# Altium footprint library WA3-220S05A3.PcbLib: 1 footprints
Each footprint in its own frame and in the unit in brackets; x right, y up, seen from the top. Pads: shape width x height; smd on the part's side, far side on the other; paste and mask are expansions set on the pad; w line width, h text height; cw(c..) or ccw(c..) is an arc to the next point about the centre after c.
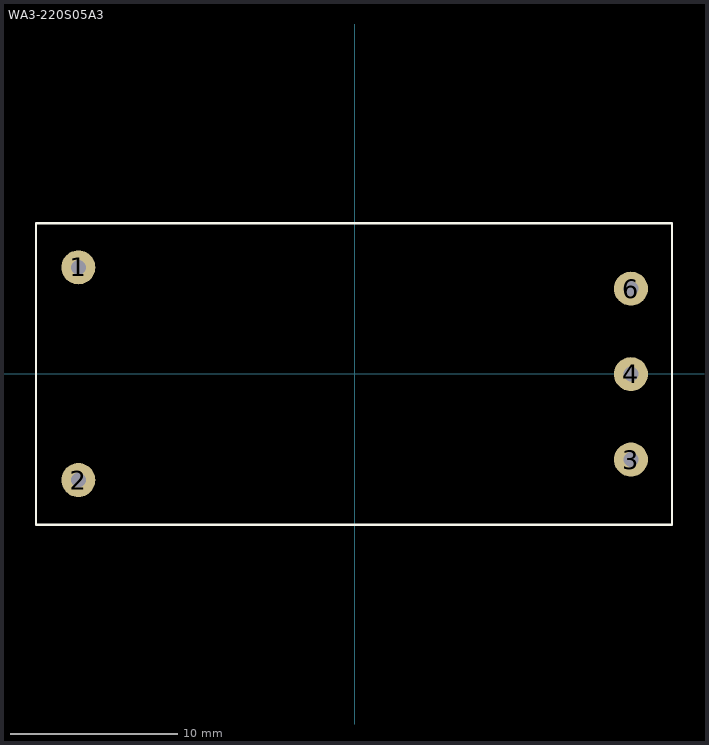
[diagram p0: the footprint, top view; thin cyan lines are the x and y axes]

## WA3-220S05A3 [mil]
pads (5):
  round 80 hole 35.43: 1(-649.5,250) 2(-649.5,-250) 3(649.5,-201.93) 4(649.5,-1) 6(649.5,199.93)
Top Overlay:
  lines w5: -749.5,-355 -749.5,353.66 746.56,353.66 746.56,-355 -749.5,-355
3D body: height 708.66, standoff -117.12, extent -746.53,-359.32 749.54,349.34